# Altium schematic symbol library MaxVit_74.SchLib: 7 symbols
Pins are listed as number, name and electrical type; pins without a type are passive.

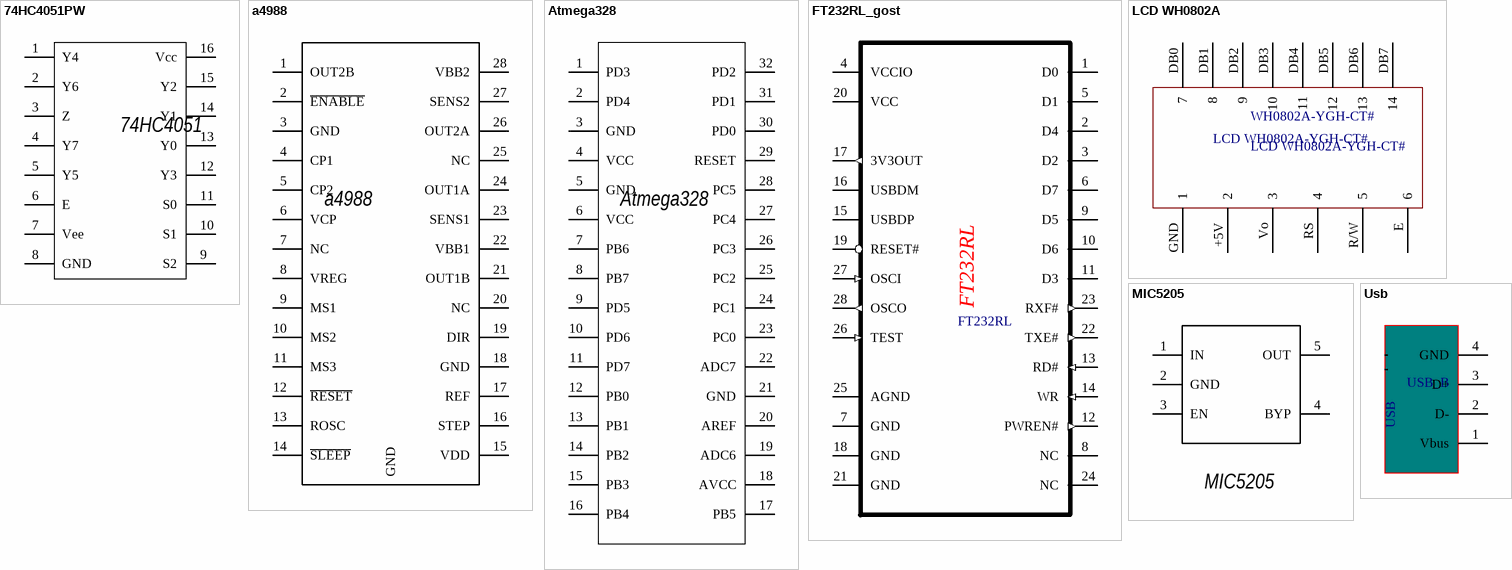
[diagram p0: symbols 74HC4051PW to Usb]

## 74HC4051PW
designator 74HC4051, comment 74HC4051  (value not drawn)
8-channel analog multiplexer/demultiplexer; OutComment: 74HC4051PW; Name: 74HC4051; PackageDescription: TTSOP16
footprint TSSOP16 (TSOP, 16-Leads, Body 5,1x4,5mm (max), Pitch 0,65mm, IPC Medium Density)
pins: 1 Y4, 2 Y6, 3 Z, 4 Y7, 5 Y5, 6 E (power), 7 Vee, 8 GND, 9 S2, 10 S1, 11 S0, 12 Y3, 13 Y0, 14 Y1, 15 Y2, 16 Vcc

## a4988
designator a4988  (value not drawn)
DRIVER drive; Name: a4988; OutComment: a4988; PackageDescription: QFN28
footprint A4988_m
pins: 1 OUT2B, 2 ~{ENABLE}, 3 GND, 4 CP1, 5 CP2, 6 VCP (power), 7 NC, 8 VREG, 9 MS1, 10 MS2, 11 MS3, 12 ~{RESET}, 13 ROSC, 14 ~{SLEEP}, 15 VDD, 16 STEP, 17 REF, 18 GND, 19 DIR, 20 NC, 21 OUT1B, 22 VBB1, 23 SENS1, 24 OUT1A, 25 NC, 26 OUT2A, 27 SENS2, 28 VBB2, 29 GND

## Atmega328
designator Atmega328  (value not drawn)
microcontoller; Name: Atmega328; OutComment: Atmega328; PackageDescription: TQFN32
footprint Mega328TQFP80P900X900X120-32N (TQFP, 32-Leads, Body 7,00x7,00mm, Pitch 0,80mm, IPC Medium Density)
pins: 1 PD3, 2 PD4, 3 GND, 4 VCC, 5 GND, 6 VCC (power), 7 PB6, 8 PB7, 9 PD5, 10 PD6, 11 PD7, 12 PB0, 13 PB1, 14 PB2, 15 PB3, 16 PB4, 17 PB5, 18 AVCC, 19 ADC6, 20 AREF, 21 GND, 22 ADC7, 23 PC0, 24 PC1, 25 PC2, 26 PC3, 27 PC4, 28 PC5, 29 RESET, 30 PD0, 31 PD1, 32 PD2

## FT232RL_gost
designator FT232RL  (value not drawn)
footprint FT232RL
pins: 1 D0, 2 D4, 3 D2, 4 VCCIO (power), 5 D1, 6 D7, 7 GND (power), 8 NC, 9 D5, 10 D6, 11 D3, 12 PWREN# (out), 13 RD# (in), 14 WR (in), 15 USBDP, 16 USBDM, 17 3V3OUT (out), 18 GND (power), 19 RESET#, 20 VCC (power), 21 GND (power), 22 TXE# (out), 23 RXF# (out), 24 NC, 25 AGND (power), 26 TEST (in), 27 OSCI (in), 28 OSCO (out)

## LCD WH0802A
designator WH0802A-YGH-CT#, comment LCD WH0802A-YGH-CT#
footprint LCD WH0802A-YGH-CT#
pins: +5V 2, DB0 7, DB1 8, DB2 9, DB3 10, DB4 11, DB5 12, DB6 13, DB7 14, E 6, GND 1, R/W 5, RS 4, Vo 3

## MIC5205
designator MIC5205  (value not drawn)
dc buck; Name: MIC5205; OutComment: MIC5205; PackageDescription: sot-23
footprint mic5205SOT95P280X110-5N (SOT23, 5-Leads, Body 2,90x2,80mm, Pitch 0,95mm, IPC Medium Density)
pins: 1 IN, 2 GND, 3 EN, 4 BYP, 5 OUT

## Usb
designator USB_B  (value not drawn)
footprint USB_B
pins: 1 Vbus (power), 2 D-, 3 D+, 4 GND (power), 5 GND, 6 GND
text: USB